# Altium footprint library ANALOGDEVICES_FE.PcbLib: 1 footprints
Each footprint in its own frame and in the unit in brackets; x right, y up, seen from the top. Pads: shape width x height; smd on the part's side, far side on the other; paste and mask are expansions set on the pad; w line width, h text height; cw(c..) or ccw(c..) is an arc to the next point about the centre after c.
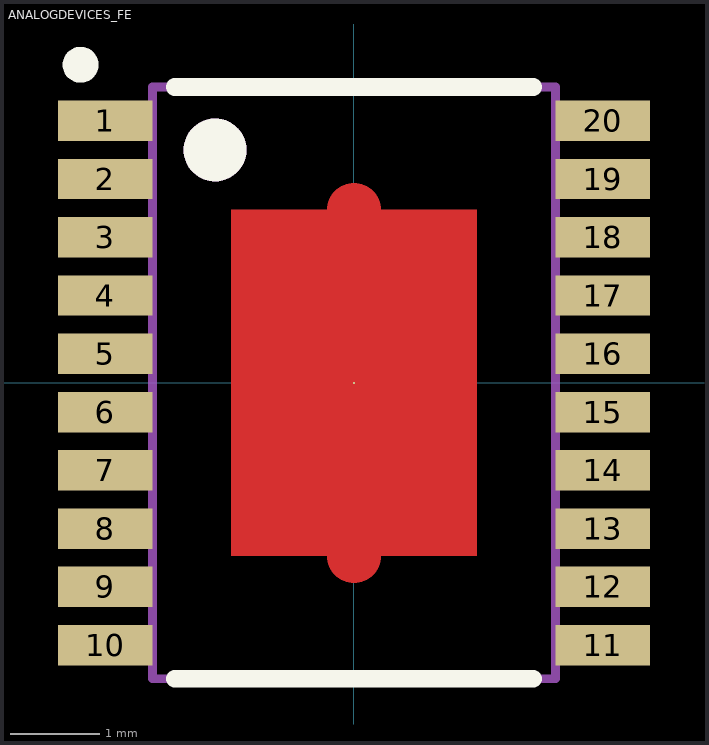
[diagram p0: the footprint, top view; thin cyan lines are the x and y axes]

## ANALOGDEVICES_FE [mm] "ANALOGDEVICES_FE"
height 1.2
pads (21):
  rect 1.05x0.45 smd mask+0.05: 1(-2.775,2.925) 2(-2.775,2.275) 3(-2.775,1.625) 4(-2.775,0.975) 5(-2.775,0.325) 6(-2.775,-0.325) 7(-2.775,-0.975) 8(-2.775,-1.625) 9(-2.775,-2.275) 10(-2.775,-2.925) 11(2.775,-2.925) 12(2.775,-2.275) 13(2.775,-1.625) 14(2.775,-0.975) 15(2.775,-0.325) 16(2.775,0.325) 17(2.775,0.975) 18(2.775,1.625) 19(2.775,2.275) 20(2.775,2.925)
  round 0.025 smd mask+0.05: 21(0,0)
Top Layer:
  region: -1.37,-1.93 -1.37,1.93 -0.3,1.93 -0.3,1.96 -0.288,2.018 -0.266,2.072 -0.233,2.121 -0.191,2.163 -0.142,2.196 -0.088,2.218 -0.03,2.23 0.03,2.23 0.088,2.218 0.142,2.196 0.191,2.163 0.233,2.121 0.266,2.072 0.288,2.018 0.3,1.96 0.3,1.93 1.37,1.93 1.37,-1.93 0.3,-1.93 0.3,-1.96 0.288,-2.018 0.266,-2.072 0.233,-2.121 0.191,-2.163 0.142,-2.196 0.088,-2.218 0.03,-2.23 -0.03,-2.23 -0.088,-2.218 -0.142,-2.196 -0.191,-2.163 -0.233,-2.121 -0.266,-2.072 -0.288,-2.018 -0.3,-1.96 -0.3,-1.93
Top Overlay:
  circle w0.5: c-1.55,2.6 r0.1
  circle w0.2: c-3.05,3.55 r0.1
  lines w0.2: -2,-3.3 2,-3.3 ; -2,3.3 2,3.3
Top 3D Body:
  circle w0.5: c-1.55,2.6 r0.1
  lines w0.1: -2.25,-3.3 -2.25,3.3 2.25,3.3 2.25,-3.3 -2.25,-3.3
3D body "ANALOGDEVICES_FE.step": height 1.21, standoff -0.04, extent -3.2,-3.251 3.2,3.251